# Altium schematic symbol library Opto.SchLib: 1 symbol
Pins are listed as number, name and electrical type; pins without a type are passive.

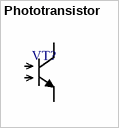
[diagram p0: symbol Phototransistor]

## Phototransistor
designator VT?  (value not drawn)
HelpURL: *; LCSCPart: *; PartNumber: *
footprint PhotoTransistor (1.7x0.8mm)
pins: 1, 2